# Altium schematic symbol library HabLib.SchLib: 159 symbols (part 2 of 2)
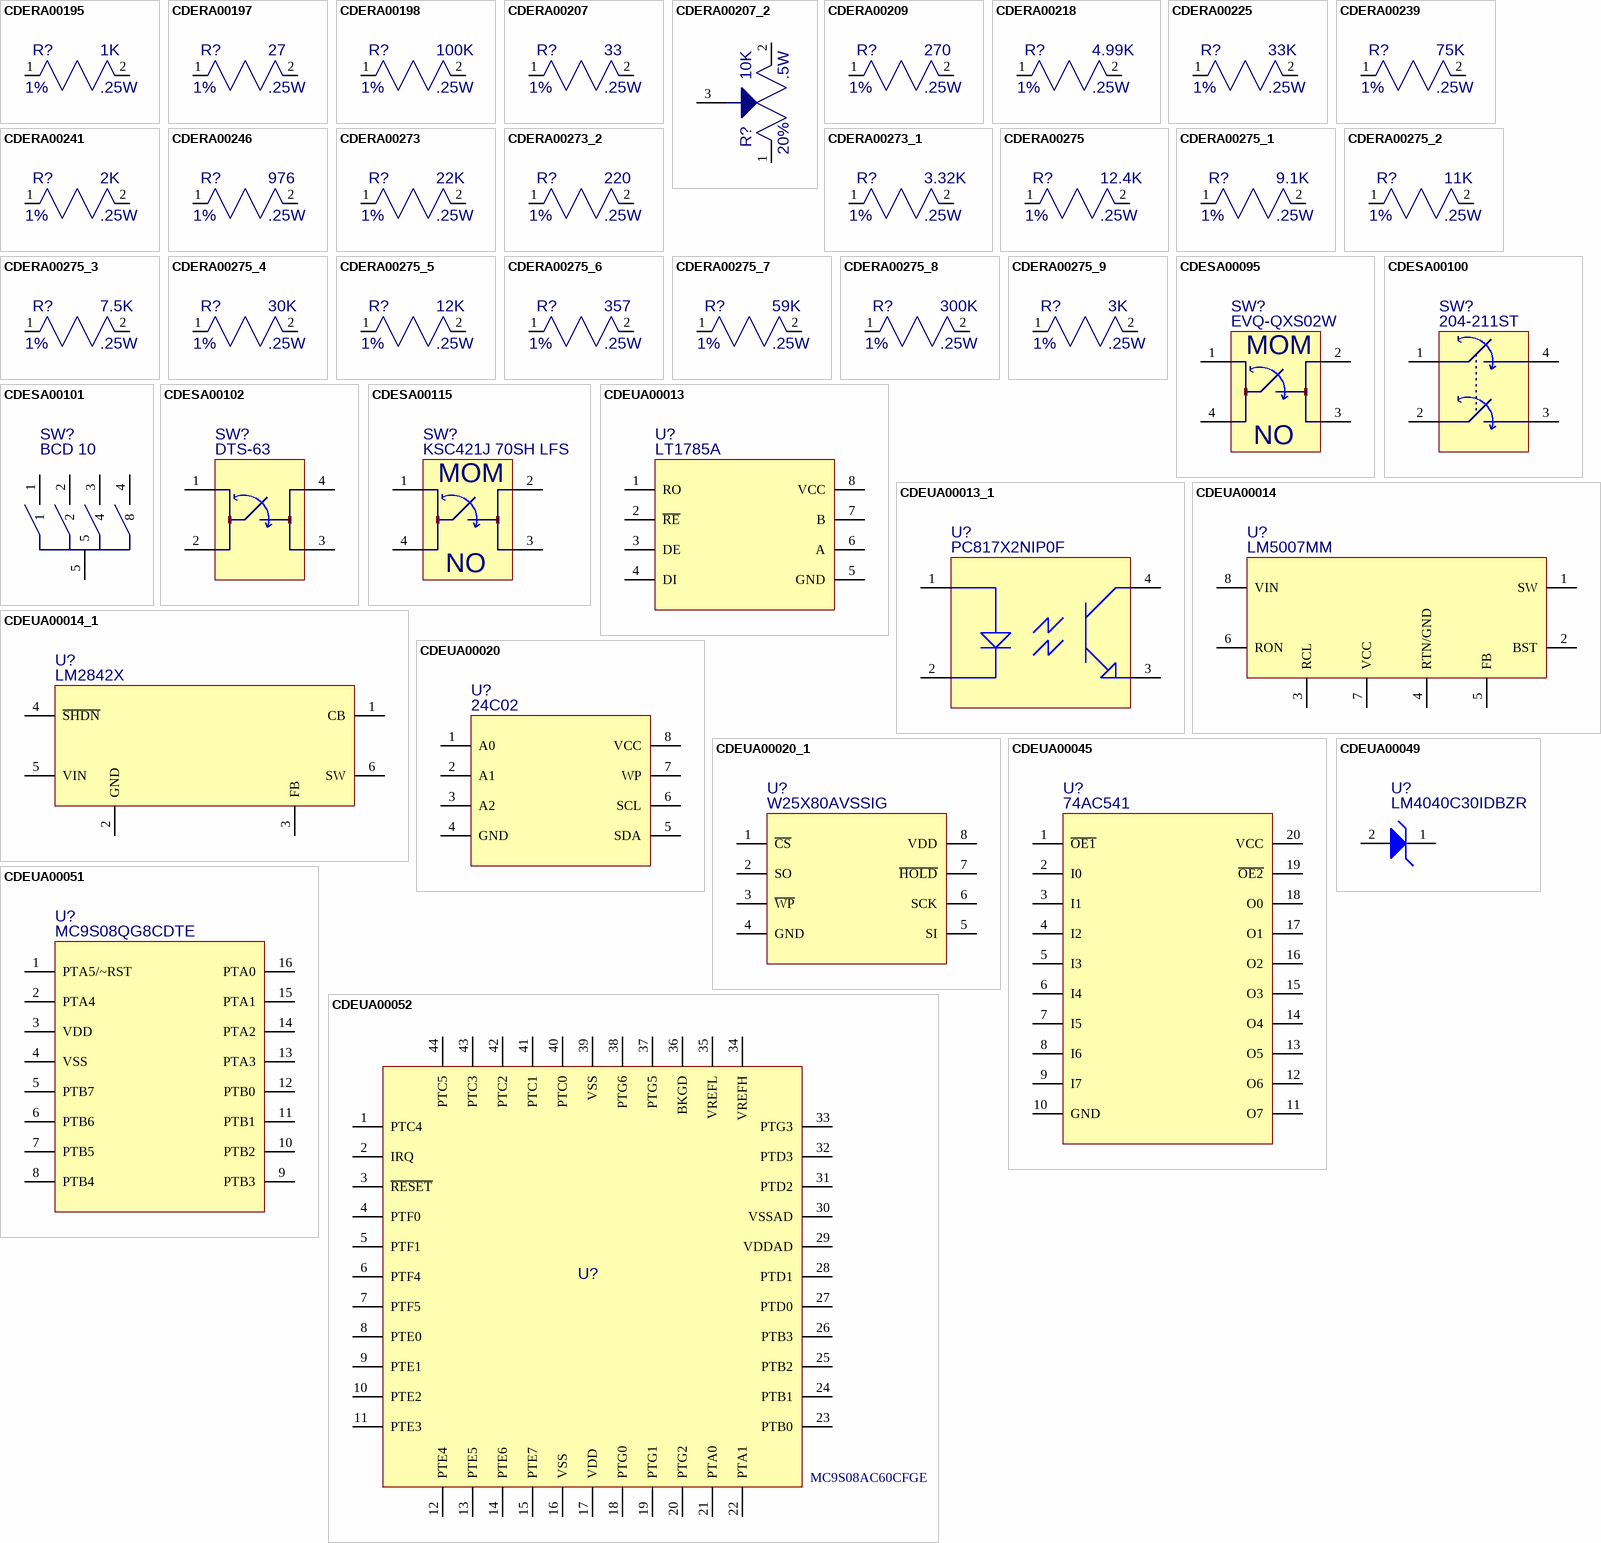
[diagram p7: symbols CDERA00195 to CDEUA00052]

## CDESA00101
designator SW?  value BCD 10  (hidden comment: CDESA00101)
BCD SWITCH, 10 POS, SMT; MFG: NKK; MFG_PN: FR02FR10P; Published: 8-Jun-2000; LatestRevisionDate: 17-Jul-2002; LatestRevisionNote: Re-released for DXP Platform.; DatasheetDocument: 1997; PackageReference: DO-35; Publisher: Altium Limited; Code_JEDEC: DO-204-AH; ComponentLink1Description: Manufacturer Link; ComponentLink1URL: http://www.fairchildsemi.com/; ComponentLink2Description: Datasheet; ComponentLink2URL: http://www.fairchildsemi.com/ds/1N%2F1N4148.pdf; Supplier 1: Digi-Key; Supplier Part Number 1: 360-2211-1-ND
footprint NKK_FR02FR10P
pins: 1, 2, 3 4, 4 8, 5

## CDESA00102
designator SW?  value DTS-63  (hidden comment: CDESA00102)
SWITCH, FUJISOKU, SPST, TH, NO LED; MFG: CTS; MFG_PN: 204-211ST; Published: 8-Jun-2000; LatestRevisionDate: 17-Jul-2002; LatestRevisionNote: Re-released for DXP Platform.; DatasheetDocument: 1997; PackageReference: DO-35; Publisher: Altium Limited; Code_JEDEC: DO-204-AH; ComponentLink1Description: Manufacturer Link; ComponentLink1URL: http://www.fairchildsemi.com/; ComponentLink2Description: Datasheet; ComponentLink2URL: http://www.fairchildsemi.com/ds/1N%2F1N4148.pdf
footprint DAILYWELL_DTS-6X
pins: 1, 2, 3, 4

## CDESA00115
designator SW?  value KSC421J 70SH LFS  (hidden comment: CDESA00115)
SWITCH, MOM, NO, SM; MFG: C&K; Published: 8-Jun-2000; LatestRevisionDate: 17-Jul-2002; LatestRevisionNote: Re-released for DXP Platform.; DatasheetDocument: 1997; PackageReference: DO-35; Publisher: Altium Limited; Code_JEDEC: DO-204-AH; ComponentLink1Description: Manufacturer Link; ComponentLink1URL: http://www.fairchildsemi.com/; ComponentLink2Description: Datasheet; ComponentLink2URL: http://www.fairchildsemi.com/ds/1N%2F1N4148.pdf; MFG_PN: KSC421J 70SH LFS; Supplier 1: Digi-Key; Supplier Part Number 1: 401-1780-1-ND
footprint C&K_KSC4x1J (SWITCH TACTILE SM)
pins: 1, 2, 3, 4
text: MOM; NO

## CDEUA00013
designator U?  value LT1785A  (hidden comment: CDEUA00013)
IC, TRANSCEIVER, RS485, 60V FAULT TOLERANT; MFG: LINEAR TECHNOLOGY; Published: 8-Jun-2000; LatestRevisionDate: 17-Jul-2002; LatestRevisionNote: Re-released for DXP Platform.; DatasheetDocument: 1997; PackageReference: DO-35; Publisher: Altium Limited; Code_JEDEC: DO-204-AH; ComponentLink1Description: Manufacturer Link; ComponentLink1URL: http://www.fairchildsemi.com/; ComponentLink2Description: Datasheet; ComponentLink2URL: http://www.fairchildsemi.com/ds/1N%2F1N4148.pdf; MFG_PN: LT1785A; Supplier 2: Digi-Key; Supplier 1: Digi-Key; Supplier Part Number 1: LT1785ACS8#PBF-ND
footprint S8_N: Linear Tech SO8 NARROW (8-Pin Small Outline Integrated Circuit 1.27 mm Pitch, IPC Medium Density)
pins: 1 RO, 2 ~{RE}, 3 DE, 4 DI, 5 GND, 6 A, 7 B, 8 VCC

## CDEUA00013_1
designator U?  value PC817X2NIP0F  (hidden comment: CDEUA00013_1)
IC, PHOTOCOUPLER, NPN OUTPUT - NO BASE, SM, ROHS; MFG: SHARP MICROELECTRONICS; MFG_PN: PC817X2NIP0F; Supplier 1: Digi-Key; Supplier Part Number 1: 425-2192-1-ND
footprint SHARP_PC817 (SHARP OPTOCOUPLER PC817)
pins: 1, 2, 3, 4

## CDEUA00014
designator U?  value LM5007MM  (hidden comment: CDEUA00014)
IC, BUCK REGULATOR, 80V, 0.7A, MSOP-8; MFG: NATIONAL SEMICONDUCTOR; Published: 8-Jun-2000; LatestRevisionDate: 17-Jul-2002; LatestRevisionNote: Re-released for DXP Platform.; DatasheetDocument: 1997; PackageReference: DO-35; Publisher: Altium Limited; Code_JEDEC: DO-204-AH; ComponentLink1Description: Manufacturer Link; ComponentLink1URL: http://www.fairchildsemi.com/; ComponentLink2Description: Datasheet; ComponentLink2URL: http://www.fairchildsemi.com/ds/1N%2F1N4148.pdf; MFG_PN: LM5007MM; Supplier 1: Digi-Key; Supplier Part Number 1: LM5007MMCT-ND
footprint MUA08A
pins: 1 SW, 2 BST, 3 RCL, 4 RTN/GND, 5 FB, 6 RON, 7 VCC, 8 VIN

## CDEUA00014_1
designator U?  value LM2842X  (hidden comment: CDEUA00014_1)
IC, BUCK REGULATOR, 0.6A, TSOT23-6; MFG: NATIONAL SEMICONDUCTOR; MFG_PN: LM2842XMK-ADJL/NOPB; Supplier 1: Digi-Key; Supplier Part Number 1: LM2842XMK-ADJLCT-ND
footprint TSOT6 (TSOT 6 PIN)
pins: 1 CB, 2 GND, 3 FB, 4 ~{SHDN}, 5 VIN, 6 SW

## CDEUA00020
designator U?  value 24C02  (hidden comment: CDEUA00020)
IC, EEPROM, I2C, 256x8, 8PIN SO8, ROHOS; MFG: ATMEL; MFG_PN: AT24C02N-10SU-2.7; Published: 8-Jun-2000; DatasheetDocument: 1997; Publisher: Altium Limited; Supplier 1: Digi-Key; Supplier Part Number 1: AT24C02N-10SU-2.7-ND
footprint S8_N: Linear Tech SO8 NARROW (8-Pin Small Outline Integrated Circuit 1.27 mm Pitch, IPC Medium Density)
pins: 1 A0, 2 A1, 3 A2, 4 GND, 5 SDA, 6 SCL, 7 WP, 8 VCC

## CDEUA00020_1
designator U?  value W25X80AVSSIG  (hidden comment: CDEUA00020_1)
IC, FLASH, SPI, 1MX8, SO8, ROHS; MFG: WINBOND ELECTRONICS; Published: 8-Jun-2000; DatasheetDocument: 1997; Publisher: Altium Limited; MFG_PN: W25X80AVSSIG; Supplier 1: Digi-Key; Supplier Part Number 1: W25X80AVSSIG-ND
footprint S8_N: Linear Tech SO8 NARROW (8-Pin Small Outline Integrated Circuit 1.27 mm Pitch, IPC Medium Density)
pins: 1 ~{CS}, 2 SO, 3 ~{WP}, 4 GND, 5 SI, 6 SCK, 7 ~{HOLD}, 8 VDD

## CDEUA00045
designator U?  value 74AC541  (hidden comment: CDEUA00045)
IC, LOGIC, BUFFER, SOP20, ROHS; MFG: FAIRCHILD SEMICONDUCTOR; MFG_PN: 74AC541SJ; Published: 8-Jun-2000; LatestRevisionDate: 17-Jul-2002; LatestRevisionNote: Re-released for DXP Platform.; DatasheetDocument: 1997; PackageReference: DO-35; Publisher: Altium Limited; Code_JEDEC: DO-204-AH; ComponentLink1Description: Manufacturer Link; ComponentLink1URL: http://www.fairchildsemi.com/; ComponentLink2Description: Datasheet; ComponentLink2URL: http://www.fairchildsemi.com/ds/1N%2F1N4148.pdf
footprint SOP20_FAIRCHILD_M20D (SOP, 20-Leads, Body 12.6x5.3mm, Pitch 1.27mm, IPC Low Density)
pins: 1 ~{OE1}, 2 I0, 3 I1, 4 I2, 5 I3, 6 I4, 7 I5, 8 I6, 9 I7, 10 GND, 11 O7, 12 O6, 13 O5, 14 O4, 15 O3, 16 O2, 17 O1, 18 O0, 19 ~{OE2}, 20 VCC

## CDEUA00049
designator U?  value LM4040C30IDBZR  (hidden comment: CDEUA00049)
IC, SHUNT VOLTAGE REFERENCE; MFG: TEXAS INSTRUMENTS; MFG_PN: LM4040C30IDBZR; Supplier 1: Digi-Key; Supplier Part Number 1: 296-20887-1-ND
footprint SOT23 - TRANSISTOR (SOT-23; 3 Leads; Body 3.1 x 2.5 mm, inc. leads (LxW max), Alternate Lead Configuration)
pins: 1 K, 2 A

## CDEUA00051
designator U?  value MC9S08QG8CDTE  (hidden comment: CDEUA00051)
IC, MICRO CONTROLLER, 8KB FLASH, 512B; MFG: FRESCALE; Published: 8-Jun-2000; LatestRevisionDate: 17-Jul-2002; LatestRevisionNote: Re-released for DXP Platform.; DatasheetDocument: 1997; PackageReference: DO-35; Publisher: Altium Limited; Code_JEDEC: DO-204-AH; ComponentLink1Description: Manufacturer Link; ComponentLink1URL: http://www.fairchildsemi.com/; ComponentLink2Description: Datasheet; ComponentLink2URL: http://www.fairchildsemi.com/ds/1N%2F1N4148.pdf; Supplier 1: Digi-Key; MFG_PN: MC9S08QG8CDTE; Supplier 2: Digi-Key; Supplier Part Number 2: MC9S08QG8CDTERCT-ND
footprint TSOP65P640-16AL (TSOP, 16-Leads, Body 5x4.4mm, Pitch 0.65mm, IPC High Density)
pins: 1 PTA5/~RST, 2 PTA4, 3 VDD, 4 VSS, 5 PTB7, 6 PTB6, 7 PTB5, 8 PTB4, 9 PTB3, 10 PTB2, 11 PTB1, 12 PTB0, 13 PTA3, 14 PTA2, 15 PTA1, 16 PTA0

## CDEUA00052
designator U?  value MC9S08AC60CFGE  (hidden comment: CDEUA00052)
IC, MICRO CONTROLLER, 60KB FLASH, 2K, 34IO, 44LQFP; MFG: FRESCALE; Published: 8-Jun-2000; LatestRevisionDate: 17-Jul-2002; LatestRevisionNote: Re-released for DXP Platform.; DatasheetDocument: 1997; PackageReference: DO-35; Publisher: Altium Limited; Code_JEDEC: DO-204-AH; ComponentLink1Description: Manufacturer Link; ComponentLink1URL: http://www.fairchildsemi.com/; ComponentLink2Description: Datasheet; ComponentLink2URL: http://www.fairchildsemi.com/ds/1N%2F1N4148.pdf; MFG_PN: MC9S08AC60CFGE; Supplier 1: Digi-Key; Supplier Part Number 1: MC9S08AC60CFGE-ND
footprint TQFP80P1200X1200-44AN (Thin QFP, 44-Leads, Body 10x10mm, Pitch 0.8mm, IPC Medium Density)
pins: 1 PTC4, 2 IRQ, 3 ~{RESET}, 4 PTF0, 5 PTF1, 6 PTF4, 7 PTF5, 8 PTE0, 9 PTE1, 10 PTE2, 11 PTE3, 12 PTE4, 13 PTE5, 14 PTE6, 15 PTE7, 16 VSS, 17 VDD, 18 PTG0, 19 PTG1, 20 PTG2, 21 PTA0, 22 PTA1, 23 PTB0, 24 PTB1, 25 PTB2, 26 PTB3, 27 PTD0, 28 PTD1, 29 VDDAD, 30 VSSAD, 31 PTD2, 32 PTD3, 33 PTG3, 34 VREFH, 35 VREFL, 36 BKGD, 37 PTG5, 38 PTG6, 39 VSS, 40 PTC0, 41 PTC1, 42 PTC2, 43 PTC3, 44 PTC5

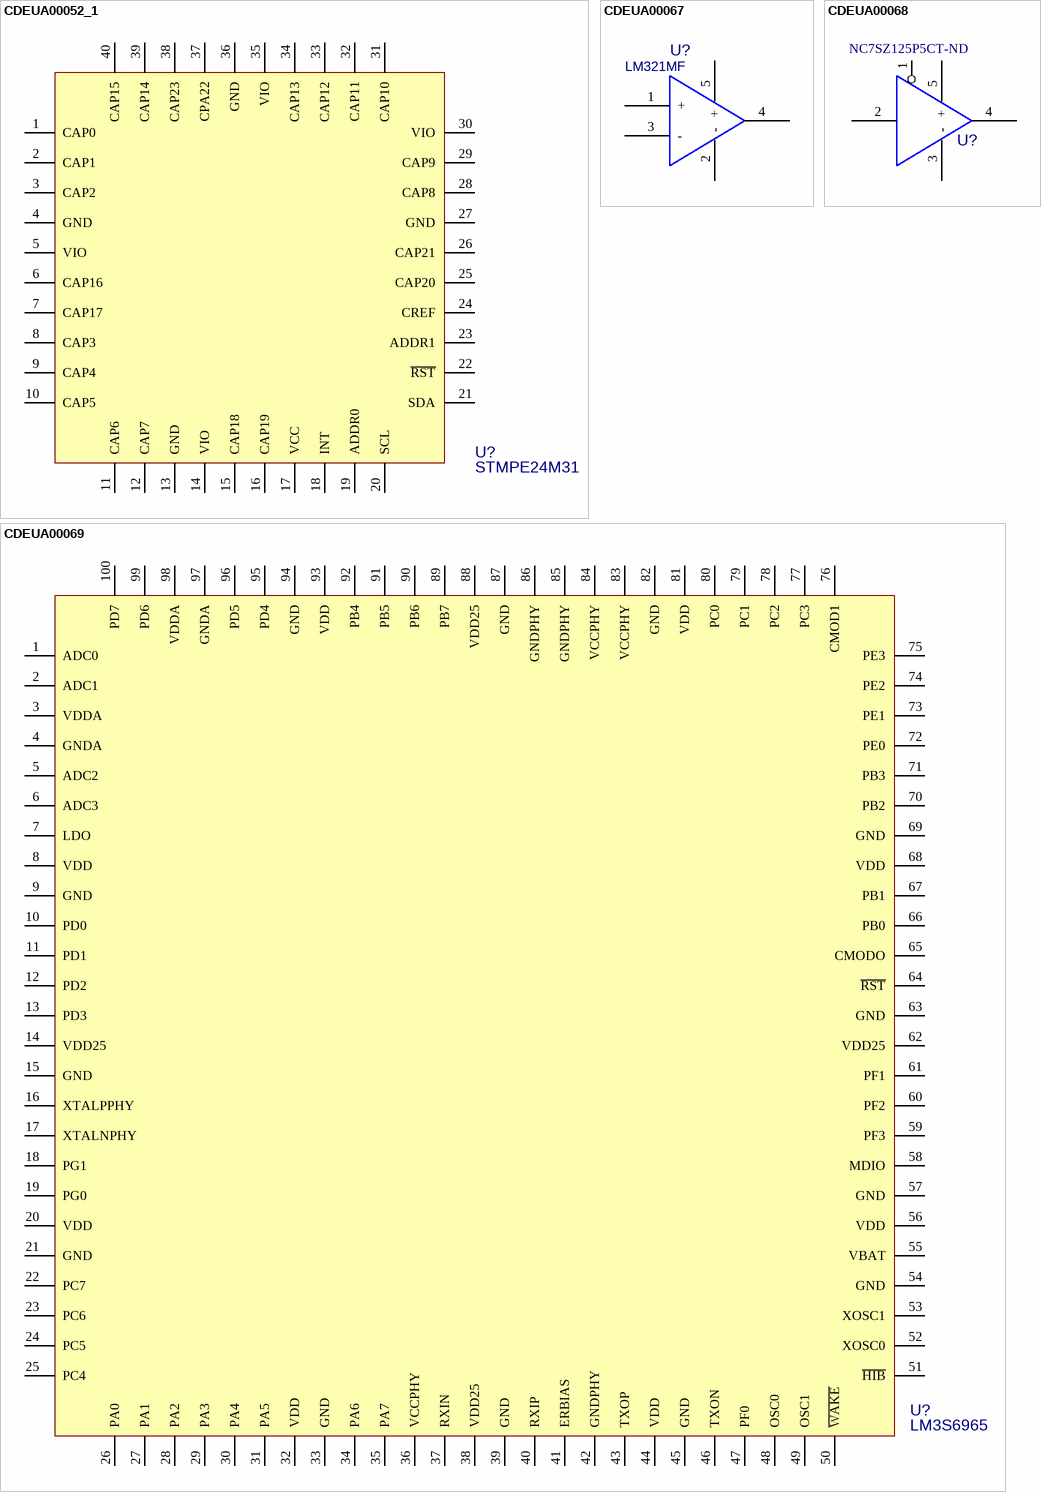
[diagram p3: symbols CDEUA00052_1 to CDEUA00069]

## CDEUA00052_1
designator U?  value STMPE24M31  (hidden comment: CDEUA00052_1)
IC, TOUCHKEY CONTROLLER, 24CH, I2C, 40QFN; MFG: ST; Published: 8-Jun-2000; LatestRevisionDate: 17-Jul-2002; LatestRevisionNote: Re-released for DXP Platform.; DatasheetDocument: 1997; Publisher: Altium Limited; Code_JEDEC: DO-204-AH; ComponentLink1Description: Manufacturer Link; ComponentLink1URL: http://www.fairchildsemi.com/; ComponentLink2Description: Datasheet; ComponentLink2URL: http://www.fairchildsemi.com/ds/1N%2F1N4148.pdf; MFG_PN: STMPE24M31; Supplier 1: Digi-Key; Supplier Part Number 1: 497-10380-1-ND
footprint QFN40P500X500X80-41V_MODIFIED (QFN, 40-Leads, Body 5x5 mm, Pitch 0.4mm, NSC Recommended)
pins: 1 CAP0, 2 CAP1, 3 CAP2, 4 GND, 5 VIO, 6 CAP16, 7 CAP17, 8 CAP3, 9 CAP4, 10 CAP5, 11 CAP6, 12 CAP7, 13 GND, 14 VIO, 15 CAP18, 16 CAP19, 17 VCC, 18 INT, 19 ADDR0, 20 SCL, 21 SDA, 22 ~{RST}, 23 ADDR1, 24 CREF, 25 CAP20, 26 CAP21, 27 GND, 28 CAP8, 29 CAP9, 30 VIO, 31 CAP10, 32 CAP11, 33 CAP12, 34 CAP13, 35 VIO, 36 GND, 37 CPA22, 38 CAP23, 39 CAP14, 40 CAP15

## CDEUA00067
designator U?  MFG_PN: LM321MF  (hidden comment: CDEUA00067)
IC, OP AMP, SINGLE, LOW POWER, SOT23-5; MFG: NATIONAL SEMICONDUCTOR; Published: 8-Jun-2000; LatestRevisionDate: 17-Jul-2002; LatestRevisionNote: Re-released for DXP Platform.; DatasheetDocument: 1997; PackageReference: DO-35; Publisher: Altium Limited; Code_JEDEC: DO-204-AH; ComponentLink1Description: Manufacturer Link; ComponentLink1URL: http://www.fairchildsemi.com/; ComponentLink2Description: Datasheet; Supplier 1: Digi-Key; Supplier Part Number 1: LM321MFCT-ND
footprint SOT23-5AL (SOT23, 5-Leads, Body 2.9x1.6mm, Pitch 0.95mm, Lead Span 2.8mm, IPC High Density)
pins: 1 +, 2 -, 3 -, 4, 5 +

## CDEUA00068
designator U?  Supplier Part Number 1: NC7SZ125P5CT-ND  (hidden comment: CDEUA00068)
IC, LOGIC, SINGLE BUFFER, SOT23-5; MFG: FAIRCHILD SEMICONDUCTOR; MFG_PN: NC7SZ125P5X; Published: 8-Jun-2000; LatestRevisionDate: 17-Jul-2002; LatestRevisionNote: Re-released for DXP Platform.; DatasheetDocument: 1997; PackageReference: DO-35; Publisher: Altium Limited; Code_JEDEC: DO-204-AH; ComponentLink1Description: Manufacturer Link; ComponentLink1URL: http://www.fairchildsemi.com/; ComponentLink2Description: Datasheet; Supplier 1: Digi-Key
footprint SOT23-5AL (SOT23, 5-Leads, Body 2.9x1.6mm, Pitch 0.95mm, Lead Span 2.8mm, IPC High Density)
pins: 1, 2, 3 -, 4, 5 +

## CDEUA00069
designator U?  MFG_PN: LM3S6965  (hidden comment: CDEUA00069)
IC, MICRO CONTROLLER, 256KB FLASH, 64K, ARM CORTEX M3, 100LQFP; MFG: TEXAS INSTRUMENTS; Published: 8-Jun-2000; LatestRevisionDate: 17-Jul-2002; LatestRevisionNote: Re-released for DXP Platform.; DatasheetDocument: 1997; Publisher: Altium Limited; Code_JEDEC: DO-204-AH; ComponentLink1Description: Manufacturer Link; ComponentLink2Description: Datasheet; Supplier 1: Digi-Key; Supplier Part Number 1: 296-24916-ND
footprint SQFP50P1600X1600-100M_MODIFIED (Shrink QFP, 100-Leads, Body 14x14mm, Pitch 0.5mm, IPC Low Density)
pins: 1 ADC0, 2 ADC1, 3 VDDA, 4 GNDA, 5 ADC2, 6 ADC3, 7 LDO, 8 VDD, 9 GND, 10 PD0, 11 PD1, 12 PD2, 13 PD3, 14 VDD25, 15 GND, 16 XTALPPHY, 17 XTALNPHY, 18 PG1, 19 PG0, 20 VDD, 21 GND, 22 PC7, 23 PC6, 24 PC5, 25 PC4, 26 PA0, 27 PA1, 28 PA2, 29 PA3, 30 PA4, 31 PA5, 32 VDD, 33 GND, 34 PA6, 35 PA7, 36 VCCPHY, 37 RXIN, 38 VDD25, 39 GND, 40 RXIP, 41 ERBIAS, 42 GNDPHY, 43 TXOP, 44 VDD, 45 GND, 46 TXON, 47 PF0, 48 OSC0, 49 OSC1, 50 ~{WAKE}, 51 ~{HIB}, 52 XOSC0, 53 XOSC1, 54 GND, 55 VBAT, 56 VDD, 57 GND, 58 MDIO, 59 PF3, 60 PF2, 61 PF1, 62 VDD25, 63 GND, 64 ~{RST}, 65 CMODO, 66 PB0, 67 PB1, 68 VDD, 69 GND, 70 PB2, 71 PB3, 72 PE0, 73 PE1, 74 PE2, 75 PE3, 76 CMOD1, 77 PC3, 78 PC2, 79 PC1, 80 PC0, 81 VDD, 82 GND, 83 VCCPHY, 84 VCCPHY, 85 GNDPHY, 86 GNDPHY, 87 GND, 88 VDD25, 89 PB7, 90 PB6, 91 PB5, 92 PB4, 93 VDD, 94 GND, 95 PD4, 96 PD5, 97 GNDA, 98 VDDA, 99 PD6, 100 PD7

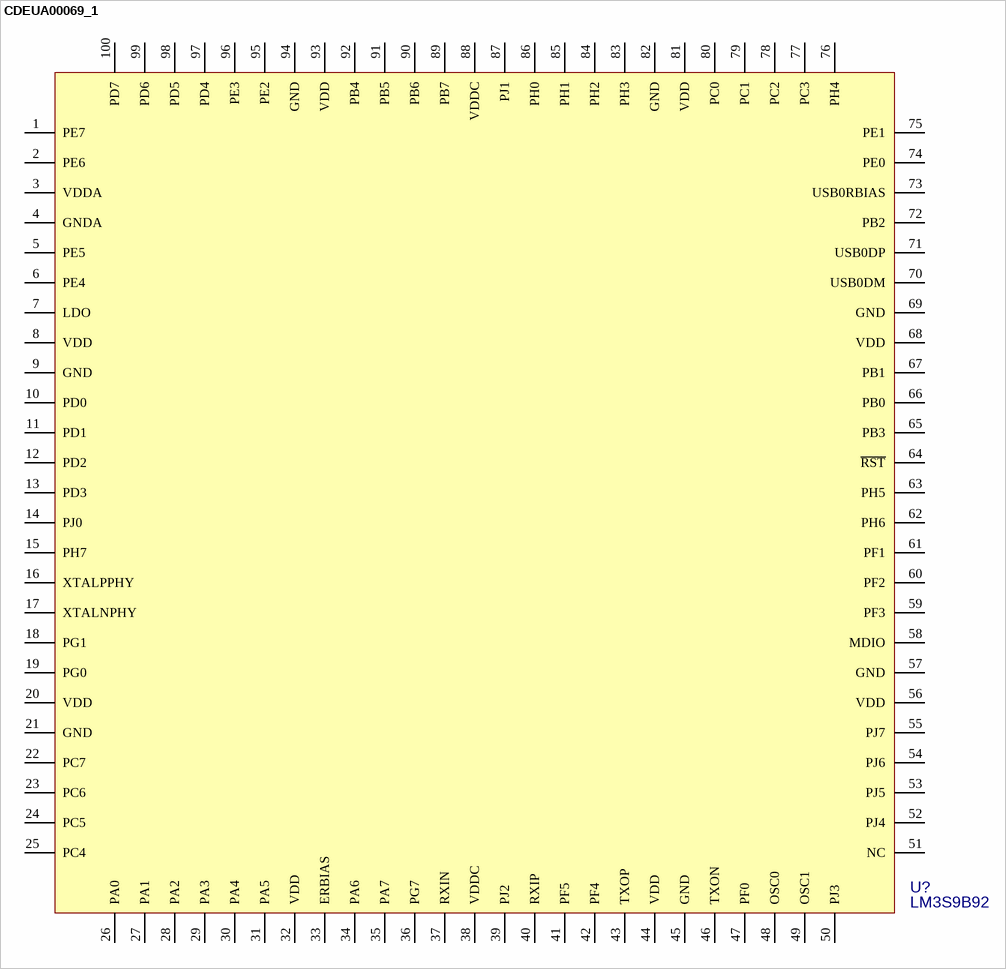
[diagram p4: symbol CDEUA00069_1]

## CDEUA00069_1
designator U?  MFG_PN: LM3S9B92  (hidden comment: CDEUA00069_1)
IC, MICRO CONTROLLER, 256KB FLASH, 96K, ARM CORTEX M3, 100LQFP; MFG: TEXAS INSTRUMENTS; Published: 8-Jun-2000; LatestRevisionDate: 17-Jul-2002; LatestRevisionNote: Re-released for DXP Platform.; DatasheetDocument: 1997; Publisher: Altium Limited; Code_JEDEC: DO-204-AH; ComponentLink1Description: Manufacturer Link; ComponentLink2Description: Datasheet; Supplier 1: Digi-Key; Supplier Part Number 1: LM3S9B92-IQC80-C3T-ND
footprint SQFP50P1600X1600-100M_MODIFIED (Shrink QFP, 100-Leads, Body 14x14mm, Pitch 0.5mm, IPC Low Density)
pins: 1 PE7, 2 PE6, 3 VDDA, 4 GNDA, 5 PE5, 6 PE4, 7 LDO, 8 VDD, 9 GND, 10 PD0, 11 PD1, 12 PD2, 13 PD3, 14 PJ0, 15 PH7, 16 XTALPPHY, 17 XTALNPHY, 18 PG1, 19 PG0, 20 VDD, 21 GND, 22 PC7, 23 PC6, 24 PC5, 25 PC4, 26 PA0, 27 PA1, 28 PA2, 29 PA3, 30 PA4, 31 PA5, 32 VDD, 33 ERBIAS, 34 PA6, 35 PA7, 36 PG7, 37 RXIN, 38 VDDC, 39 PJ2, 40 RXIP, 41 PF5, 42 PF4, 43 TXOP, 44 VDD, 45 GND, 46 TXON, 47 PF0, 48 OSC0, 49 OSC1, 50 PJ3, 51 NC, 52 PJ4, 53 PJ5, 54 PJ6, 55 PJ7, 56 VDD, 57 GND, 58 MDIO, 59 PF3, 60 PF2, 61 PF1, 62 PH6, 63 PH5, 64 ~{RST}, 65 PB3, 66 PB0, 67 PB1, 68 VDD, 69 GND, 70 USB0DM, 71 USB0DP, 72 PB2, 73 USB0RBIAS, 74 PE0, 75 PE1, 76 PH4, 77 PC3, 78 PC2, 79 PC1, 80 PC0, 81 VDD, 82 GND, 83 PH3, 84 PH2, 85 PH1, 86 PH0, 87 PJ1, 88 VDDC, 89 PB7, 90 PB6, 91 PB5, 92 PB4, 93 VDD, 94 GND, 95 PE2, 96 PE3, 97 PD4, 98 PD5, 99 PD6, 100 PD7

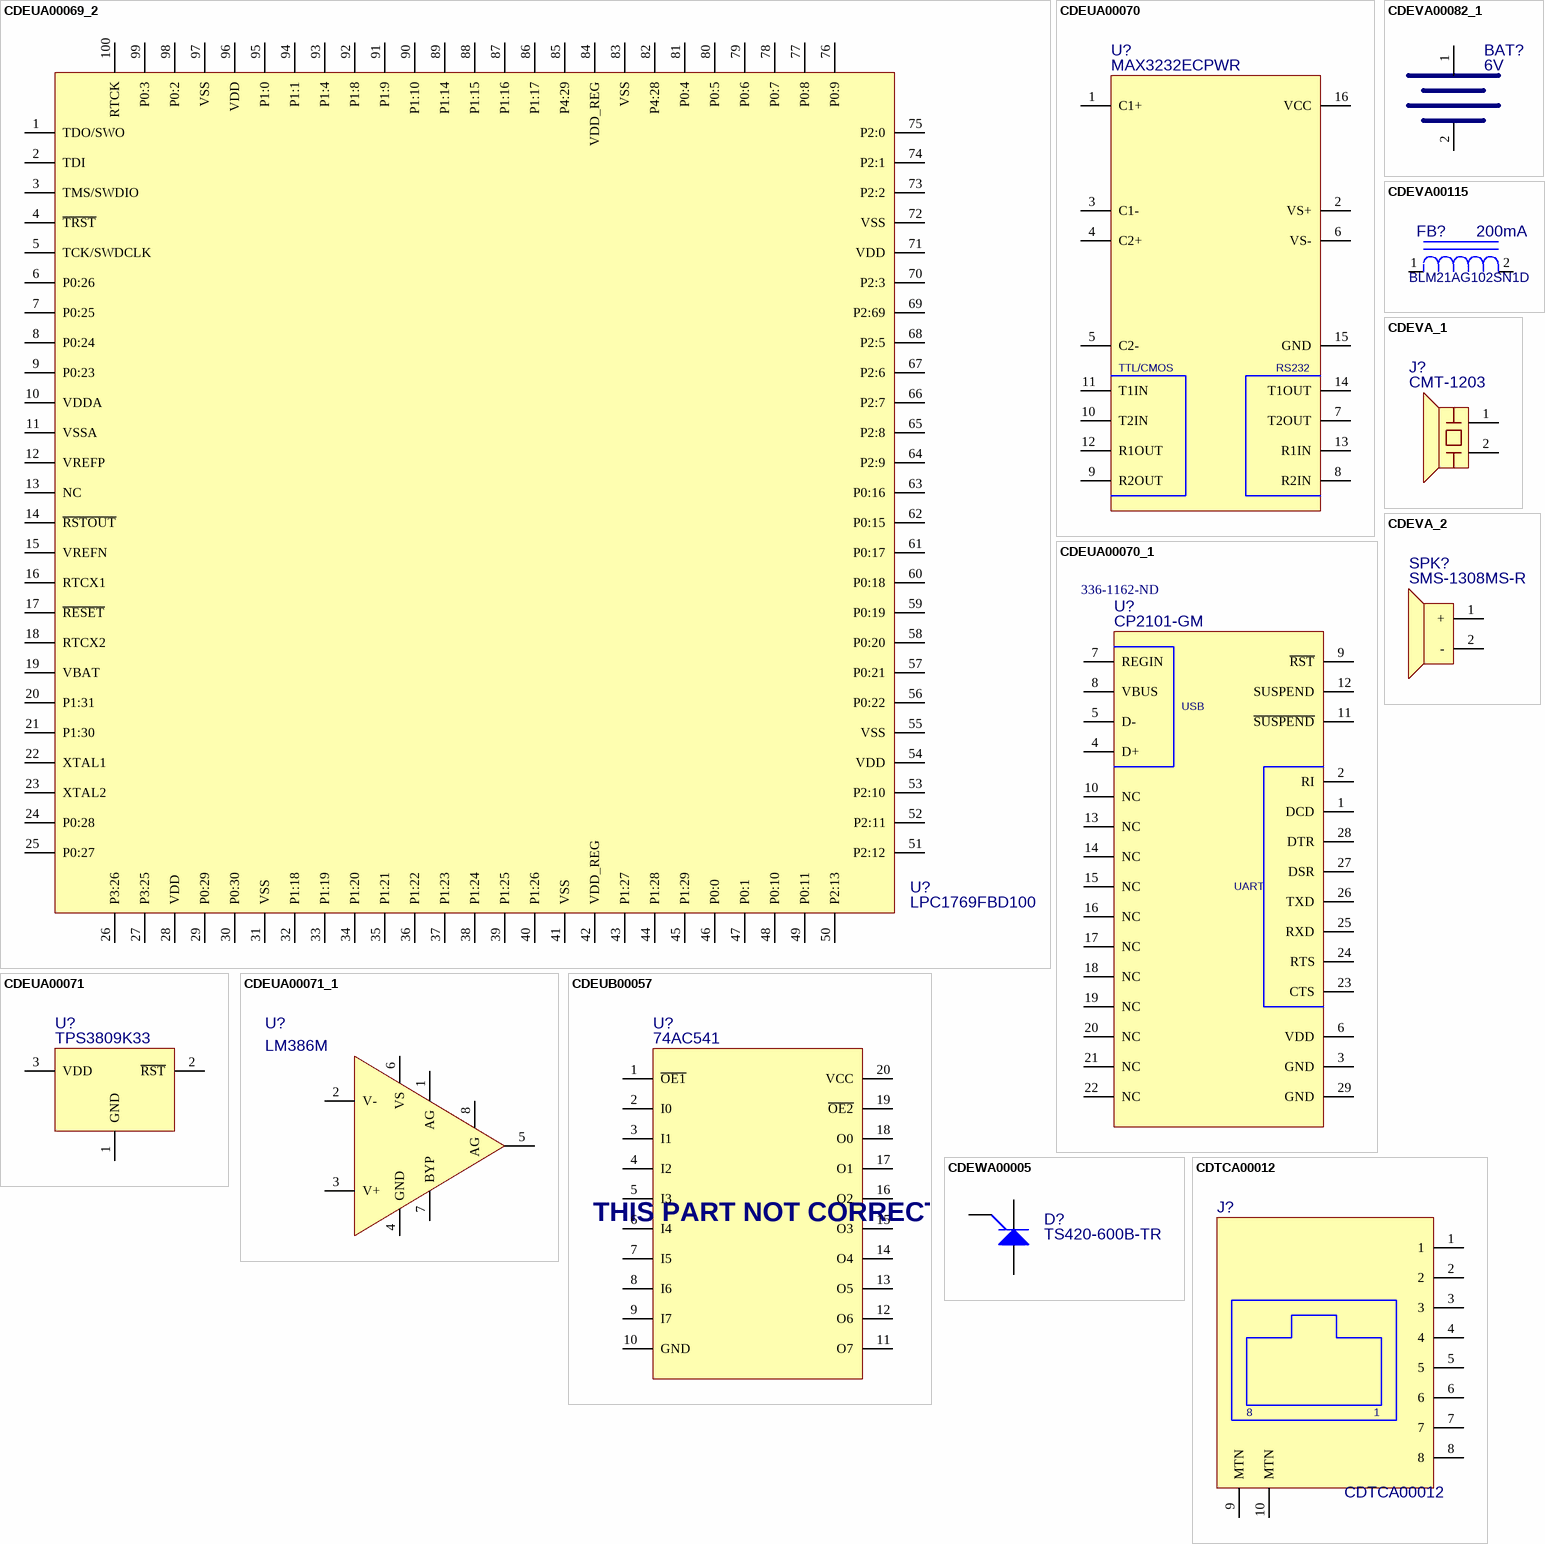
[diagram p5: symbols CDEUA00069_2 to CDTCA00012]

## CDEUA00069_2
designator U?  MFG_PN: LPC1769FBD100  (hidden comment: CDEUA00069_2)
IC, MICRO CONTROLLER, 512KB FLASH, 64K, ARM CORTEX M3, 100LQFP; MFG: NXP; Supplier 1: Digi-Key; Supplier Part Number 1: 568-4966-ND
footprint SQFP50P1600X1600-100M_MODIFIED (Shrink QFP, 100-Leads, Body 14x14mm, Pitch 0.5mm, IPC Low Density)
pins: 1 TDO/SWO, 2 TDI, 3 TMS/SWDIO, 4 ~{TRST}, 5 TCK/SWDCLK, 6 P0:26, 7 P0:25, 8 P0:24, 9 P0:23, 10 VDDA, 11 VSSA, 12 VREFP, 13 NC, 14 ~{RSTOUT}, 15 VREFN, 16 RTCX1, 17 ~{RESET}, 18 RTCX2, 19 VBAT, 20 P1:31, 21 P1:30, 22 XTAL1, 23 XTAL2, 24 P0:28, 25 P0:27, 26 P3:26, 27 P3:25, 28 VDD, 29 P0:29, 30 P0:30, 31 VSS, 32 P1:18, 33 P1:19, 34 P1:20, 35 P1:21, 36 P1:22, 37 P1:23, 38 P1:24, 39 P1:25, 40 P1:26, 41 VSS, 42 VDD_REG, 43 P1:27, 44 P1:28, 45 P1:29, 46 P0:0, 47 P0:1, 48 P0:10, 49 P0:11, 50 P2:13, 51 P2:12, 52 P2:11, 53 P2:10, 54 VDD, 55 VSS, 56 P0:22, 57 P0:21, 58 P0:20, 59 P0:19, 60 P0:18, 61 P0:17, 62 P0:15, 63 P0:16, 64 P2:9, 65 P2:8, 66 P2:7, 67 P2:6, 68 P2:5, 69 P2:69, 70 P2:3, 71 VDD, 72 VSS, 73 P2:2, 74 P2:1, 75 P2:0, 76 P0:9, 77 P0:8, 78 P0:7, 79 P0:6, 80 P0:5, 81 P0:4, 82 P4:28, 83 VSS, 84 VDD_REG, 85 P4:29, 86 P1:17, 87 P1:16, 88 P1:15, 89 P1:14, 90 P1:10, 91 P1:9, 92 P1:8, 93 P1:4, 94 P1:1, 95 P1:0, 96 VDD, 97 VSS, 98 P0:2, 99 P0:3, 100 RTCK

## CDEUA00070
designator U?  value MAX3232ECPWR  (hidden comment: CDEUA00070)
IC, TXRX DUAL RS232 3.3-5V 16-TSSOP, IEC6000-4-2, TI: MAX3232ECPWR; MFG: TEXAS INSTRUMENTS; PackageReference: DO-35; MFG_PN: MAX3232ECPWR; Supplier 1: Digi-Key; Supplier Part Number 1: 296-19263-1-ND
footprint TSOP65P640-16AL-MODIFIED (TSOP, 16-Leads, Body 5x4.4mm, Pitch 0.65mm, IPC High Density)
pins: 1 C1+, 2 VS+, 3 C1-, 4 C2+, 5 C2-, 6 VS-, 7 T2OUT, 8 R2IN, 9 R2OUT, 10 T2IN, 11 T1IN, 12 R1OUT, 13 R1IN, 14 T1OUT, 15 GND, 16 VCC
text: TTL/CMOS; RS232

## CDEUA00070_1
designator U?  value CP2101-GM  Supplier Part Number 1: 336-1162-ND  (hidden comment: CDEUA00070_1)
IC, TXRX USB TO UART BRIDGE, ROHS, 28QFN; MFG: SILICON LABS; MFG_PN: CP2101-GM; Supplier 1: Digi-Key
footprint QFN50P500X500-28VBM-MODIFIED (28-Pin Plastic Quad Flat No-Lead 0.5 mm Pitch)
pins: 1 DCD, 2 RI, 3 GND, 4 D+, 5 D-, 6 VDD, 7 REGIN, 8 VBUS, 9 ~{RST}, 10 NC, 11 ~{SUSPEND}, 12 SUSPEND, 13 NC, 14 NC, 15 NC, 16 NC, 17 NC, 18 NC, 19 NC, 20 NC, 21 NC, 22 NC, 23 CTS, 24 RTS, 25 RXD, 26 TXD, 27 DSR, 28 DTR, 29 GND
text: USB; UART

## CDEUA00071
designator U?  value TPS3809K33  (hidden comment: CDEUA00071)
IC 2.93V SUPPLY MONITOR SOT-23-3, ROHS; MFG: TEXAS INSTRUMENTS; MFG_PN: TPS3809K33QDBVRQ1; Supplier 1: Digi-Key; Supplier Part Number 1: 296-15644-1-ND
footprint SOT23 - TRANSISTOR (SOT-23; 3 Leads; Body 3.1 x 2.5 mm, inc. leads (LxW max), Alternate Lead Configuration)
pins: 1 GND, 2 ~{RST}, 3 VDD

## CDEUA00071_1
designator U?  value LM386M  (hidden comment: CDEUA00071_1)
IC AUDIO AMP, CLASS AB, 325mW, 8SOIC, ROHS; MFG: NATIONAL SEMICONDUCTOR; MFG_PN: LM386M-1/NOPB; Supplier 1: Digi-Key; Supplier Part Number 1: LM386M-1-ND
footprint MUA08A
pins: 1 AG, 2 V-, 3 V+, 4 GND, 5, 6 VS, 7 BYP, 8 AG

## CDEUB00057
designator U?  value 74AC541  (hidden comment: CDEUB00057)
IC, DRVR/RCVR RS-232 1-CH 16-SSOP; MFG: TEXAS INSTRUMENTS; MFG_PN: MAX3221CDBR; Published: 8-Jun-2000; LatestRevisionDate: 17-Jul-2002; LatestRevisionNote: Re-released for DXP Platform.; DatasheetDocument: 1997; PackageReference: DO-35; Publisher: Altium Limited; Code_JEDEC: DO-204-AH; ComponentLink1Description: Manufacturer Link; ComponentLink2Description: Datasheet
footprint SOP20_FAIRCHILD_M20D (SOP, 20-Leads, Body 12.6x5.3mm, Pitch 1.27mm, IPC Low Density)
pins: 1 ~{OE1}, 2 I0, 3 I1, 4 I2, 5 I3, 6 I4, 7 I5, 8 I6, 9 I7, 10 GND, 11 O7, 12 O6, 13 O5, 14 O4, 15 O3, 16 O2, 17 O1, 18 O0, 19 ~{OE2}, 20 VCC
text: THIS PART NOT CORRECT

## CDEVA00082_1
designator BAT?  VOLTAGE: 6V  (hidden comment: CDEVA00082_1)
CONN, BAT HOLDER 2-COIN CELL 20MM, SMD, ROHS; MFG: KEYSTONE ELECTRONICS; MFG_PN: 1062; Supplier 1: Digi-Key; Supplier Part Number 1: 1062K-ND
footprint KEYSTONE_1062 (CONN, 20MM DOUBLE STACK BATTERY HOLDER)
pins: 1, 2

## CDEVA00115
designator FB?  MFG_PN: BLM21AG102SN1D  POWER: 200mA  (hidden comment: CDEVA00115)
FERRITE, 1KOHM AT 100MHZ, 220MA, .450DCR; MFG: MURATA; VALUE: 1K AT 100MHZ; TOLERANCE: 10%; Published: 8-Jun-2000; LatestRevisionDate: 04-Mar-2005; LatestRevisionNote: PCB Footprint replaced.; PackageReference: J1-0603; Publisher: Altium Limited; Supplier 1: Digi-Key; Supplier Part Number 1: 490-1041-1-ND
footprint Model Name (Footprint not found)
footprint 2012[0805] (Chip Resistor, Body 2.0x1.3mm, IPC Medium Density)
pins: 1, 2

## CDEVA_1
designator J?  MFG_PN: CMT-1203  (hidden comment: CDEVA_1)
BUZZER AUDIO PIEZO; MFG: CUI INC; Supplier 1: Digi-Key; Supplier Part Number 1: 102-2197-2-ND
footprint CUI_CMT-1203 (PIEZO, SM)
pins: 1, 2

## CDEVA_2
designator SPK?  MFG_PN: SMS-1308MS-R  (hidden comment: CDEVA_2)
SPEAKER 8OHM .7W 88DB 13MM SMD; MFG: PUI AUDIO; Supplier 1: Digi-Key; Supplier Part Number 1: 668-1206-1-ND
footprint PUI_AUDIO_SMS-1308MS-R (SPEAKER 8 OHM SM)
pins: 1 +, 2 -

## CDEWA00005
designator D?  value TS420-600B-TR  (hidden comment: CDEWA00005)
SCR 600V 4A DPAK Sensitive Gate; MFG: ST MICRO; MFG_PN: TS420-600B-TR; Supplier 1: Digi-Key; Supplier Part Number 1: 497-3276-1-ND
footprint DPAK-4PIN (ST MICRO DPAK)
pins: 1 K, 2 A, 3 G

## CDTCA00012
designator J?
CONN, MOD JACK, RJ45, 8/8, INVERTED, TH; MFG: MOLEX; MFG_PN: 44620-0001; Supplier 1: Digi-Key; Supplier Part Number 1: WM5467-ND
footprint MOLEX_44620-0001 (RJ45 RT ANG TH)
pins: 1, 2, 3, 4, 5, 6, 7, 8, 9 MTN, 10 MTN

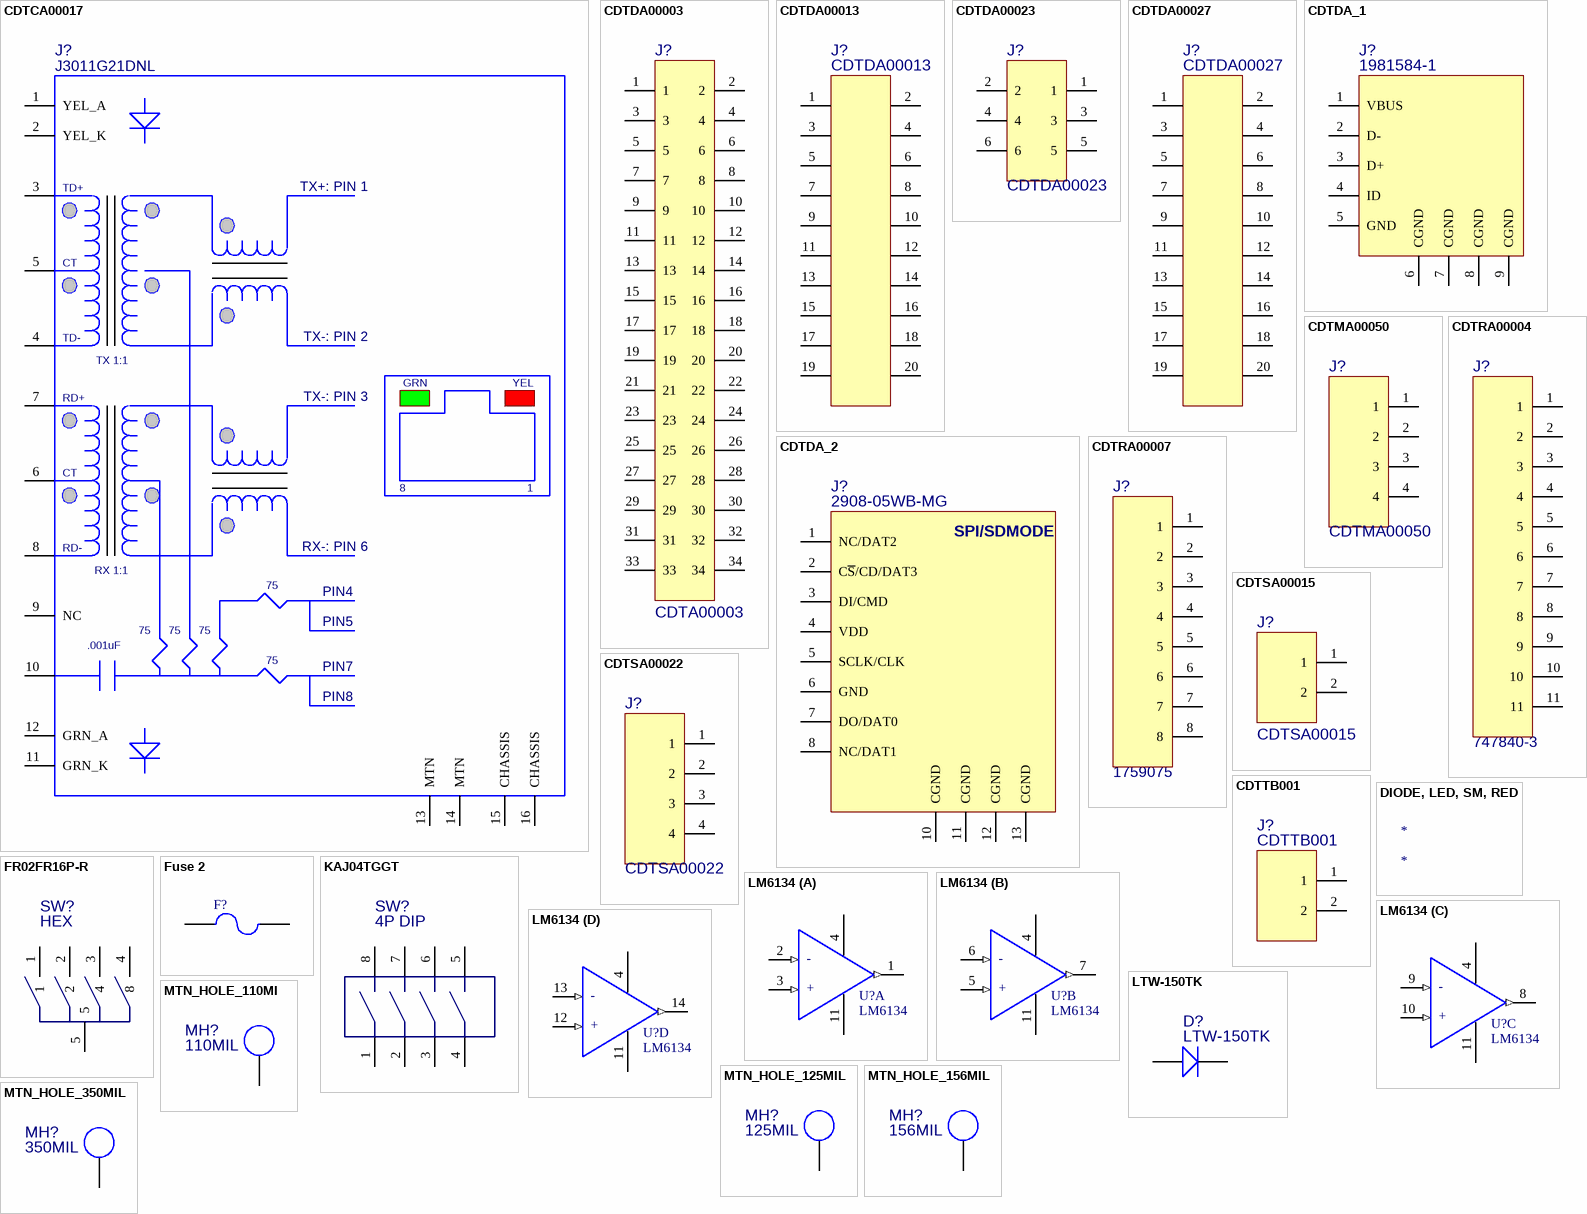
[diagram p6: symbols CDTCA00017 to MTN_HOLE_350MIL]

## CDTCA00017
designator J?  MFG_PN: J3011G21DNL  (hidden comment: CDTCA00017)
CONN, RJ45, 8/8, R/A, SM, WITH MAGNETICS AND LEDS; MFG: PULSE; Published: 8-Jun-2000; LatestRevisionDate: 04-Mar-2005; LatestRevisionNote: PCB Footprint replaced.; PackageReference: J1-0603; Publisher: Altium Limited; Supplier 1: Digi-Key; Supplier Part Number 1: 553-1491-ND
footprint PULSE_J3 (RJ45 WITH MAGNETICS AND LED)
pins: 1 YEL_A, 2 YEL_K, 3 TD+, 4 TD-, 5 CT, 6 CT, 7 RD+, 8 RD-, 9 NC, 10, 11 GRN_K, 12 GRN_A, 13 MTN, 14 MTN, 15 CHASSIS, 16 CHASSIS
text: TX+: PIN 1; TX-: PIN 2; TX 1:1; GRN; YEL; TX-: PIN 3; RX-: PIN 6; RX 1:1; 75; PIN4; PIN5; .001uF; PIN7; PIN8

## CDTDA00003
designator J?, comment CDTA00003
CONN, HEADER RIBBON CABLE DUAL-ROW 40-PIN; MFG: TYCO ELECTRONICS; MFG_PN: 5103308-7; Supplier 1: Digi-Key; Supplier Part Number 1: A33168-ND
footprint HDR_2X17_100MIL (HEADER, 2X17, 100MIL SPACING, TH)
pins: 1, 2, 3, 4, 5, 6, 7, 8, 9, 10, 11, 12, 13, 14, 15, 16, 17, 18, 19, 20, 21, 22, 23, 24, 25, 26, 27, 28, 29, 30, 31, 32, 33, 34

## CDTDA00013
designator J?
CONN, HDR, 2X10, 100MIL, TH, ROHS; MFG: TYCO ELECTRONICS; MFG_PN: 5103309-5; Supplier 1: Digi-Key; Supplier 2: Digi-Key; Supplier Part Number 1: A33166-ND; Supplier Part Number 2: MHB20K-ND
footprint HDR_2X10_100MIL (HEADER, 2X10, 100MIL SPACING, TH)
pins: 1, 2, 3, 4, 5, 6, 7, 8, 9, 10, 11, 12, 13, 14, 15, 16, 17, 18, 19, 20

## CDTDA00023
designator J?
CONN, HDR, 2X3, SM; MFG_PN: 146130-2; MFG: TYCO ELECTRONICS; Supplier 1: Digi-Key; Supplier Part Number 1: 1-146130-2-ND
footprint TYCO_146130-2
pins: 1, 2, 3, 4, 5, 6

## CDTDA00027
designator J?
CONN, HDR, 2X10, 100MIL, SM, ROHS; MFG: MOLEX; MFG_PN: 71349-2042; Supplier 1: Newark; Supplier Part Number 1: 82K7762
pins: 1, 2, 3, 4, 5, 6, 7, 8, 9, 10, 11, 12, 13, 14, 15, 16, 17, 18, 19, 20

## CDTDA_1
designator J?  value 1981584-1  (hidden comment: CDTDA_1)
CONN, RCPTL MICRO USB TYPE AB, SM RA; MFG: TYCO; MFG_PN: 1981584-1; Supplier 1: Digi-Key; Supplier Part Number 1: A97799CT-ND
footprint TYCO_1981584-1 (CONN, MICRO USB TYPE AB)
pins: 1 VBUS, 2 D-, 3 D+, 4 ID, 5 GND, 6 CGND, 7 CGND, 8 CGND, 9 CGND

## CDTDA_2
designator J?  value 2908-05WB-MG  (hidden comment: CDTDA_2)
CONN, MICRO SD, SM, ROHS; MFG: 3M; MFG_PN: 2908-05WB-MG; Supplier 1: Digi-Key; Supplier Part Number 1: 3M5607CT-ND
footprint 3M_2908-05WB-MG (MICROSD 8P PUSH PUSH)
pins: 1 NC/DAT2, 2 C~{S}/CD/DAT3, 3 DI/CMD, 4 VDD, 5 SCLK/CLK, 6 GND, 7 DO/DAT0, 8 NC/DAT1, 10 CGND, 11 CGND, 12 CGND, 13 CGND
text: SPI/SDMODE

## CDTMA00050
designator J?
CONN, HDR 2X2, 100MIL, SM, POLARIZED, MICRO MATE N LOK; MFG_PN: 3-794636-4; MFG: TYCO ELECTRONICS; Supplier 1: Digi-Key; Supplier Part Number 1: A33236CT-ND
footprint TYCO_3-794636-4 (HDR, MFG: TYCO, PN: 3-794636-4, HDR 2X2 MINI MATE N LOK)
pins: 1, 2, 3, 4

## CDTRA00004
designator J?  MFG_PN: 747840-3  (hidden comment: CDTRA00004)
CONN, PCB MOUNT DB9 FEMALE; MFG: TYCO ELECTRONICS; Supplier 1: Digi-Key; Supplier Part Number 1: A32091-ND
footprint TYCO_5747840 (DB9 RIGHT ANGLE)
pins: 1, 2, 3, 4, 5, 6, 7, 8, 9, 10, 11

## CDTRA00007
designator J?  MFG_PN: 1759075  (hidden comment: CDTRA00007)
CONN, HDR RT ANG 8POS 200MIL SPACING, ROHS; MFG: PHOENIX CONTACT; Supplier 1: Digi-Key; Supplier Part Number 1: 277-1101-ND
footprint PHONEIX_1759075 (CONN HDR RT ANG 8 POS 5.08MM)
pins: 1, 2, 3, 4, 5, 6, 7, 8

## CDTSA00015
designator J?
CONN, HDR 1X2, 100MIL, TH, POLARIZED; MFG_PN: 640456-2; MFG: TYCO ELECTRONICS; Supplier 1: Digi-Key; Supplier Part Number 1: A1921-ND
footprint CDTSA00015
pins: 1, 2

## CDTSA00022
designator J?
HEADER SGL ROW 4 PIN 100MIL; MFG_PN: 3-794636-4; MFG: TYCO ELECTRONICS; Supplier 1: Digi-Key; Supplier Part Number 1: 609-3262-ND
footprint HDR_1X4_100MIL (HEADER, 1X4, 100MIL SPACING, TH)
pins: 1, 2, 3, 4

## CDTTB001
designator J?
CONN, HDR, 2PIN, 5MM PHONIX CONTACT, ROHS; MFG_PN: 1933189; MFG: PHOENIX CONTACT; Supplier 1: Digi-Key; Supplier Part Number 1: 277-1645-ND
footprint PHOENIX_CONTACT_1933189 (Chip Resistor, Body 2.0x1.3mm, IPC Medium Density)
pins: 1, 2

## DIODE, LED, SM, RED
designator *

## FR02FR16P-R
designator SW?  value HEX  (hidden comment: FR02FR16P-R)
BCD SWITCH, 16 POS, HEX FORMAT SMT; MFG: NKK; MFG_PN: FR02FR10P; Published: 8-Jun-2000; LatestRevisionDate: 17-Jul-2002; LatestRevisionNote: Re-released for DXP Platform.; DatasheetDocument: 1997; PackageReference: DO-35; Publisher: Altium Limited; Code_JEDEC: DO-204-AH; ComponentLink1Description: Manufacturer Link; ComponentLink1URL: http://www.fairchildsemi.com/; ComponentLink2Description: Datasheet; ComponentLink2URL: http://www.fairchildsemi.com/ds/1N%2F1N4148.pdf; Supplier 1: Digi-Key; Supplier Part Number 1: 360-2212-1-ND
footprint NKK_FR02FR16P (SM ROTARTY 16POS HEX)
pins: 1, 2, 3 4, 4 8, 5

## Fuse 2
designator F?
Fuse; Published: 8-Jun-2000; LatestRevisionDate: 17-Jul-2002; LatestRevisionNote: Re-released for DXP Platform.; PackageReference: PIN-W2/E2.8; Publisher: Altium Limited
footprint PIN-W2/E2.8 (Fuse; 2 Leads)
simulation model FUSE (Spice Subcircuit)
pins: 1, 2

## KAJ04TGGT
designator SW?  value 4P DIP  (hidden comment: KAJ04TGGT)
BCD SWITCH, 10 POS, SMT; MFG: NKK; MFG_PN: FR02FR10P; Published: 8-Jun-2000; LatestRevisionDate: 17-Jul-2002; LatestRevisionNote: Re-released for DXP Platform.; DatasheetDocument: 1997; PackageReference: DO-35; Publisher: Altium Limited; Code_JEDEC: DO-204-AH; ComponentLink1Description: Manufacturer Link; ComponentLink1URL: http://www.fairchildsemi.com/; ComponentLink2Description: Datasheet; ComponentLink2URL: http://www.fairchildsemi.com/ds/1N%2F1N4148.pdf; Supplier 1: Digi-Key; Supplier Part Number 1: EG4428-ND
footprint ESWITCH_KAJ04TGGT
pins: 1, 2, 3, 4, 5, 6, 7, 8

## LM6134
designator U?
IC, OP AMP, QUAD, RAIL TO RAIL IO, 10MHz; SYNERGY_PN: CDEUA00046
pins on every part: 4 +V (power), 11 -V (power)
part A pins: 1 OUTPUT (out), 2 - (in), 3 + (in)
part B pins: 5 + (in), 6 - (in), 7 OUTPUT (out)
part C pins: 8 OUTPUT (out), 9 - (in), 10 + (in)
part D pins: 12 + (in), 13 - (in), 14 OUTPUT (out)

## LTW-150TK
designator D?
DIODE, LED, WHITE, 1206 SMD; Published: 8-Jun-2000; LatestRevisionDate: 17-Jul-2002; LatestRevisionNote: Re-released for DXP Platform.; DatasheetDocument: 1997; PackageReference: DO-35; Publisher: Altium Limited; Code_JEDEC: DO-204-AH; ComponentLink1Description: Manufacturer Link; ComponentLink1URL: http://www.fairchildsemi.com/; ComponentLink2Description: Datasheet; ComponentLink2URL: http://www.fairchildsemi.com/ds/1N%2F1N4148.pdf; Supplier 1: Digi-Key; Supplier Part Number 1: 160-1737-1-ND; VALUE: LTW-150TK
footprint LITEON_LTW-150TK (LED- WITH LENZ)
pins: 1 A, 2 K

## MTN_HOLE_110MI
designator MH?, comment SIZE: 110MIL  (hidden comment: MTN_HOLE_110MIL)
MOUNTING HOLE 110MIL NON PLATED
footprint MTN_HOLE_110 (MTN HOLE NON PLATED 110MIL)
pins: 1

## MTN_HOLE_125MIL
designator MH?  SIZE: 125MIL  (hidden comment: MTN_HOLE_125MIL)
MOUNTING HOLE 125MIL NON PLATED
footprint MTN_HOLE_125 (MTN HOLE NON PLATED 125MIL)
pins: 1

## MTN_HOLE_156MIL
designator MH?  SIZE: 156MIL  (hidden comment: MTN_HOLE_156MIL)
MOUNTING HOLE 156MIL NON PLATED
footprint MTN_HOLE_156 (MTN HOLE NON PLATED 156MIL)
pins: 1

## MTN_HOLE_350MIL
designator MH?  SIZE: 350MIL  (hidden comment: MTN_HOLE_350MIL)
MOUNTING HOLE 350MIL NON PLATED
footprint MTN_HOLE_350 (MTN HOLE NON PLATED 350MIL)
pins: 1